# EAGLE library part GP2Y0D340K0F (library ZUBA_MINISUMO)
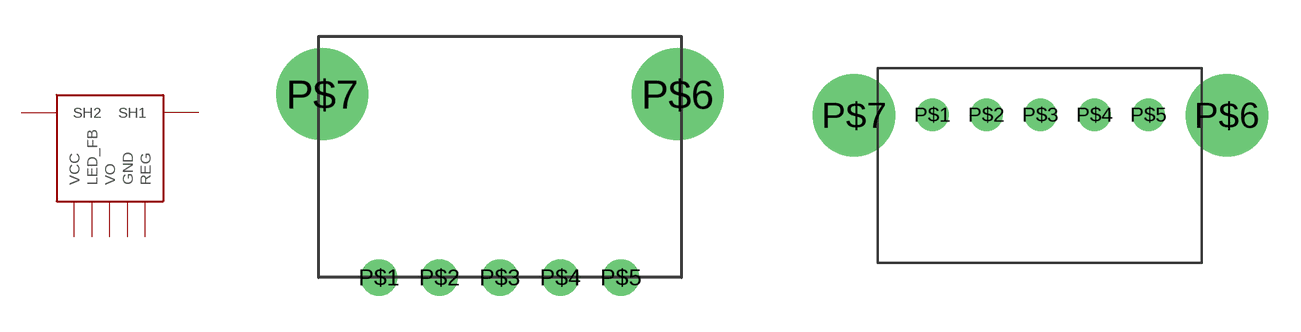
[diagram p1: symbol with the pads of 340K; footprints 340K, 340K_STAY]

Designator prefix -

## GP2Y0D340K0FNORMAL  [340K]
P$1  VCC
P$2  LED_FB
P$3  VO
P$4  GND
P$5  REG
P$6  SH1
P$7  SH2

## GP2Y0D340K0FSTAY  [340K_STAY]
Pads as for 340K

## Footprint 340K (pad centres in mm)
drill 1: P$1 -4.96,-5.08; P$2 -2.46,-5.08; P$3 0.04,-5.08; P$4 2.54,-5.08; P$5 5.04,-5.08
drill 2.8: P$6 7.39,2.52; P$7 -7.31,2.52

## Footprint 340K_STAY (pad centres in mm)
drill 1: P$1 -4.96,0; P$2 -2.46,0; P$3 0.04,0; P$4 2.54,0; P$5 5.04,0
drill 2.8: P$6 8.66,-0.02; P$7 -8.58,-0.02